# Altium schematic symbol library MOSFET.SchLib: 33 symbols
Pins are listed as number, name and electrical type; pins without a type are passive.

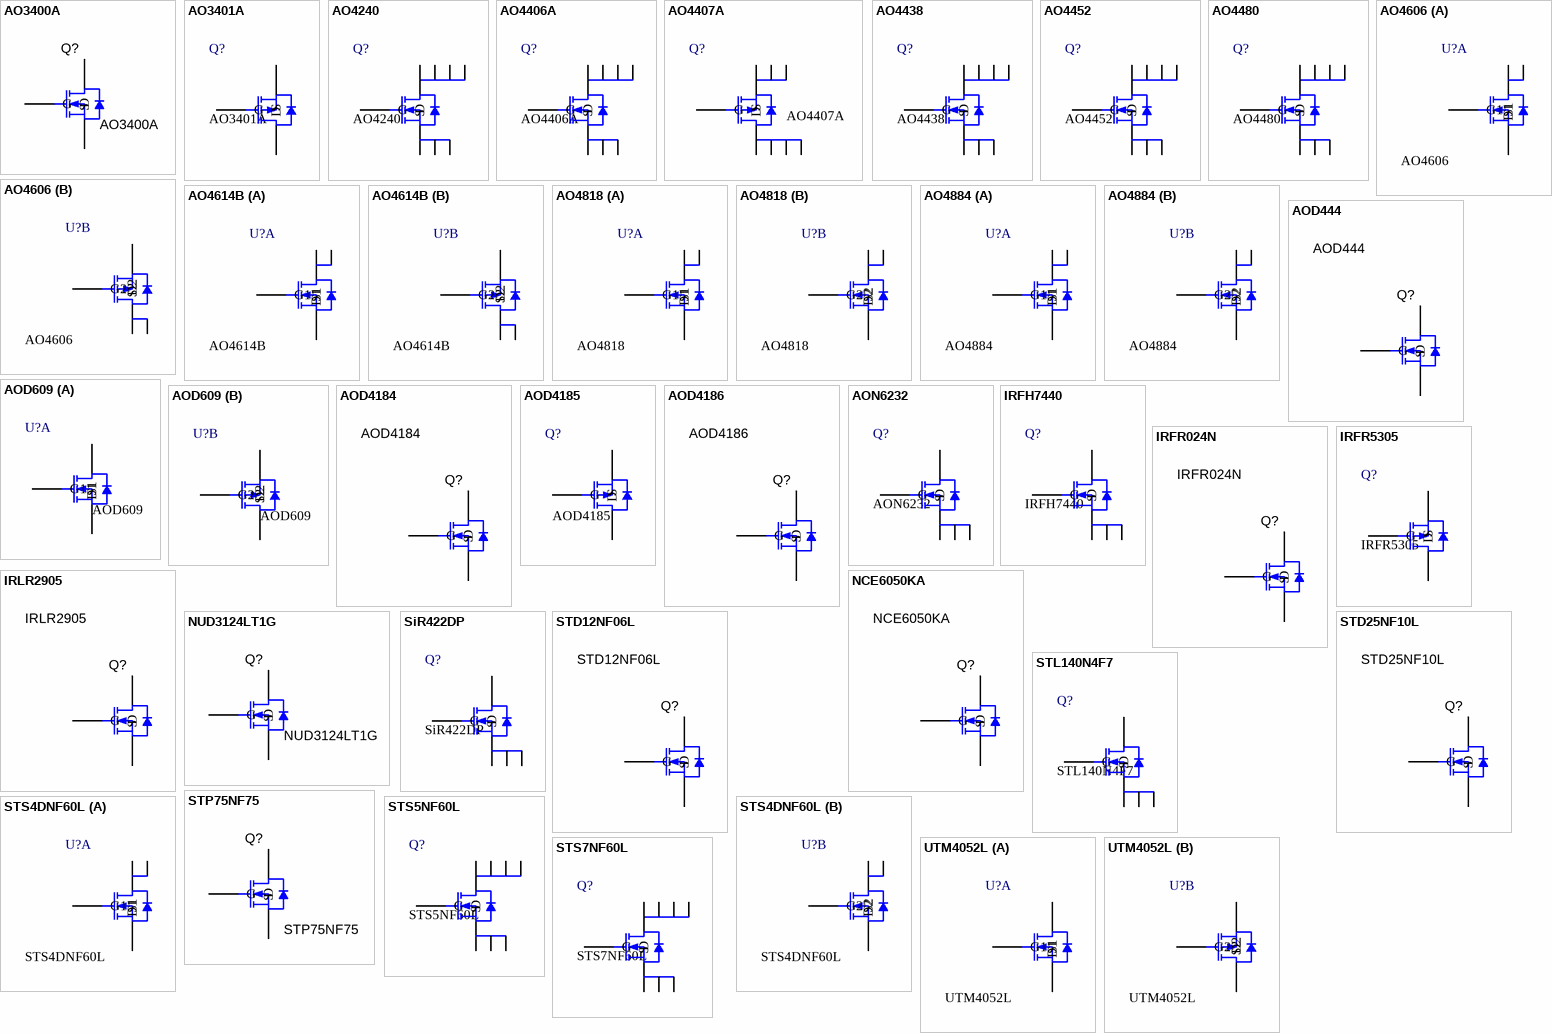
[diagram p0: symbols AO3400A to UTM4052L]

## AO3400A
designator Q?  Global part number: AO3400A
N MOSFET; Manufacturer: Alpha & Omega Semiconductor; Max voltage: 30V; Max current: 5.7A; Channel: N; Mount type: SMT; Size: SOT23
footprint SOT23-3
pins: 1 G, 2 D, 3 S
1 alternate drawing of the same symbol

## AO3401A
designator Q?  Global part number: AO3401A
P MOSFET; Manufacture: Alpha & Omega Semiconductor; Max voltage: -30V; Max current: -4A; Size: SOT23; Mount type: SMT; Channel: P
footprint SOT23-3
pins: 1 G, 2 D, 3 S

## AO4240
designator Q?  Global part number: AO4240
N MOSFET; Manufacture: Alpha & Omega Semiconductor; Max voltage(ds): 40V; Max current: 24A; Size: SOIC-8; Mount type: SMT; Channel: N
footprint SOIC-8
pins: 1 S, 2 S, 3 S, 4 G, 5 D, 6 D, 7 D, 8 D

## AO4406A
designator Q?  Global part number: AO4406A
N MOSFET; Manufacture: Alpha & Omega Semiconductor; Max voltage(ds): 30V; Max current: 13A; Size: SOIC-8; Mount type: SMT; Channel: N
footprint SOIC-8
pins: 1 S, 2 S, 3 S, 4 G, 5 D, 6 D, 7 D, 8 D

## AO4407A
designator Q?  Global part number: AO4407A
P MOSFET; Manufacture: Alpha & Omega Semiconductor; Max voltage(ds): -30V; Max current: -13A; Channel: N; Size: SOIC-8; Mount type: SMT
footprint SOIC-8
pins: 1 S, 2 S, 3 S, 3 G, 5 D, 6 D, 7 D, 8 D

## AO4438
designator Q?  Global part number: AO4438
N MOSFET; Manufacture: Alpha & Omega Semiconductor; Max voltage(ds): 60V; Max current: 8.2A; Size: SOIC-8; Mount type: SMT; Channel: N
footprint SOIC-8
pins: 1 S, 2 S, 3 S, 4 G, 5 D, 6 D, 7 D, 8 D

## AO4452
designator Q?  Global part number: AO4452
N MOSFET; Manufacture: Alpha & Omega Semiconductor; Max voltage(ds): 100V; Max current: 8A; Size: SOIC-8; Mount type: SMT; Channel: N
footprint SOIC-8
pins: 1 S, 2 S, 3 S, 4 G, 5 D, 6 D, 7 D, 8 D

## AO4480
designator Q?  Global part number: AO4480
N MOSFET; Manufacture: Alpha & Omega Semiconductor; Max voltage(ds): 40V; Max current: 14A; Size: SOIC-8; Mount type: SMT; Series: MOSFET; Channel: N
footprint SOIC-8
pins: 1 S, 2 S, 3 S, 4 G, 5 D, 6 D, 7 D, 8 D

## AO4606
designator U?  Global part number: AO4606
N+P MOSFET; Manufacture: Alpha & Omega Semiconductor; Max voltage P: -30V; Max voltage N: 30V; Max current N: 6A; Max current P: -6.5A; Size: SOIC-8; Mount type: SMT; Channel: N+P
footprint SOIC-8
part A pins: 1 S1, 2 G1, 7 D1, 8 D1
part B pins: 3 S2, 4 G2, 5 D2, 6 D2

## AO4614B
designator U?  Global part number: AO4614B
N+P MOSFET; Manufacture: Alpha & Omega Semiconductor; Max voltage P: -40V; Max voltage N: 40V; Max current N: 6A; Max current P: -5A; Size: SOIC-8; Mount type: SMT; Channel: N+P
footprint SOIC-8
part A pins: 1 S1, 2 G1, 7 D1, 8 D1
part B pins: 3 S2, 4 G2, 5 D2, 6 D2

## AO4818
designator U?  Global part number: AO4818
N+N MOSFET; Manufacture: Alpha & Omega Semiconductor; Max voltage N: 30V; Max current N: 8A; Size: SOIC-8; Mount type: SMT; Channel: N+N
footprint SOIC-8
part A pins: 1 S1, 2 G1, 7 D1, 8 D1
part B pins: 3 S2, 4 G2, 5 D2, 6 D2

## AO4884
designator U?  Global part number: AO4884
N+N MOSFET; Manufacture: Alpha & Omega Semiconductor; Max voltage N: 40V; Max current N: 10A; Size: SOIC-8; Mount type: SMT; Channel: N+N
footprint SOIC-8
part A pins: 1 S1, 2 G1, 7 D1, 8 D1
part B pins: 3 S2, 4 G2, 5 D2, 6 D2

## AOD444
designator Q?  Global part number: AOD444
N MOSFET; Manufacturer: Alpha & Omega Semiconductor; Max voltage(ds): 60V; Max current: 12A; Channel: N; Mount type: SMT; Size: DPAK
footprint DPAK(TO252-2)
pins: 1 G, 2 D, 3 S
1 alternate drawing of the same symbol

## AOD609
designator U?  Global part number: AOD609
N+P MOSFET; Manufacture: Alpha & Omega Semiconductor; Max voltage P: -40V; Max voltage N: 40V; Max current N: 12A; Max current P: -12A; Size: DAPK(TO252-4); Mount type: SMT; Channel: N+P
footprint DPAK(TO252-4)
part A pins: 1 S1, 2 G1, 3 D1
part B pins: 3 D2, 4 S2, 5 G2

## AOD4184
designator Q?  Global part number: AOD4184
N MOSFET; Manufacturer: Alpha & Omega Semiconductor; Max voltage(ds): 40V; Max current: 35A; Channel: N; Mount type: SMT; Size: DPAK
footprint DPAK-2
pins: 1 G, 2 D, 3 S
1 alternate drawing of the same symbol

## AOD4185
designator Q?  Global part number: AOD4185
P MOSFET; Manufacture: Alpha & Omega Semiconductor; Max voltage(ds): -40V; Max current: -40A; Size: DPAK; Mount type: SMT; Channel: P
footprint DPAK(TO252-2)
pins: 1 G, 2 D, 3 S

## AOD4186
designator Q?  Global part number: AOD4186
N MOSFET; Manufacturer: Alpha & Omega Semiconductor; Max voltage(ds): 40V; Max current: 35A; Channel: N; Mount type: SMT; Size: DPAK
footprint DPAK(TO252-2)
pins: 1 G, 2 D, 3 S
1 alternate drawing of the same symbol

## AON6232
designator Q?  Global part number: AON6232
N MOSFET; Manufacture: Alpha & Omega Semiconductor; Max voltage(ds): 40V; Max current: 85A; Size: DFN5*6; Mount type: SMT; Channel: N
footprint PowerPAK SO-8
pins: 1 S, 2 S, 3 S, 4 G, 5 D

## IRFH7440
designator Q?  Global part number: IRFH7440
N MOSFET; Manufacture: International Rectifier; Max voltage(ds): 40V; Max current: 85A; Size: DFN5*6; Mount type: SMT; Channel: N
footprint PowerPAK SO-8
pins: 1 S, 2 S, 3 S, 4 G, 5 D

## IRFR024N
designator Q?  Global part number: IRFR024N
N MOSFET; Manufacturer: International Rectifier; Max voltage(ds): 55V; Max current: 17A; Channel: N; Mount type: SMT; Size: DPAK
footprint DPAK(TO252-2)
pins: 1 G, 2 D, 3 S
1 alternate drawing of the same symbol

## IRFR5305
designator Q?  Global part number: IRFR5305
P MOSFET; Manufacture: International Rectifier; Max voltage(ds): -55V; Max current: -31A; Size: DPAK; Mount type: SMT; Channel: P
footprint DPAK(TO252-2)
pins: 1 G, 2 D, 3 S

## IRLR2905
designator Q?  Global part number: IRLR2905
N MOSFET; Manufacturer: International Rectifier; Max voltage(ds): 55V; Max current: 42A; Channel: N; Mount type: SMT; Size: DPAK
footprint DPAK(TO252-2)
pins: 1 G, 2 D, 3 S
1 alternate drawing of the same symbol

## NCE6050KA
designator Q?  Global part number: NCE6050KA
N MOSFET; Manufacturer: NCEPOWER; Max voltage(ds): 60V; Max current: 50A; Channel: N; Mount type: SMT; Size: DPAK
footprint DPAK(TO252-2)
pins: 1 G, 2 D, 3 S
1 alternate drawing of the same symbol

## NUD3124LT1G
designator Q?  Global part number: NUD3124LT1G
N MOSFET; Manufacturer: ON Semiconductor; Max voltage: 28V; Max current: 0.15A; Channel: N; Mount type: SMT; Size: SOT23-3
footprint SOT23-3
pins: 1 G, 2 D, 3 S
1 alternate drawing of the same symbol

## SiR422DP
designator Q?  Global part number: SiR422DP
N MOSFET; Manufacture: Vishay; Max voltage(ds): 40V; Max current: 40A; Size: DFN5*6; Mount type: SMT; Channel: N
footprint PowerPAK SO-8
pins: 1 S, 2 S, 3 S, 4 G, 5 D

## STD12NF06L
designator Q?  Global part number: STD12NF06L
N MOSFET; Manufacturer: STMicroelectronics; Max voltage(ds): 60V; Max current: 12A; Channel: N; Mount type: SMT; Size: DPAK
footprint DPAK(TO252-2)
pins: 1 G, 2 D, 3 S
1 alternate drawing of the same symbol

## STD25NF10L
designator Q?  Global part number: STD25NF10L
N MOSFET; Manufacturer: STMicroelectronics; Max voltage(ds): 100V; Max current: 25A; Channel: N; Mount type: SMT; Size: DPAK
footprint DPAK(TO252-2)
pins: 1 G, 2 D, 3 S
1 alternate drawing of the same symbol

## STL140N4F7
designator Q?  Global part number: STL140N4F7
N MOSFET; Manufacture: STMicroelectronics; Max voltage(ds): 40V; Max current: 140A; Size: DFN5*6; Mount type: SMT; Channel: N
footprint PowerPAK SO-8
pins: 1 S, 2 S, 3 S, 4 G, 5 D

## STP75NF75
designator Q?  Global part number: STP75NF75
N MOSFET; Manufacturer: STMicroelectronics; Max voltage(ds): 75V; Max current: 80A; Channel: N; Mount type: AI; Size: DPAK
footprint TO-220-3
pins: 1 G, 2 D, 3 S
1 alternate drawing of the same symbol

## STS4DNF60L
designator U?  Global part number: STS4DNF60L
N+N MOSFET; Manufacture: STMicroelectronics; Max voltage N: 60V; Max current N: 4A; Size: SOIC-8; Mount type: SMT; Channel: N+N
footprint SOIC-8
part A pins: 1 S1, 2 G1, 7 D1, 8 D1
part B pins: 3 S2, 4 G2, 5 D2, 6 D2

## STS5NF60L
designator Q?  Global part number: STS5NF60L
N MOSFET; Manufacture: STMicroelectronics; Max voltage(ds): 60V; Max current: 5A; Size: SOIC-8; Mount type: SMT; Channel: N
footprint SOIC-8
pins: 1 S, 2 S, 3 S, 4 G, 5 D, 6 D, 7 D, 8 D

## STS7NF60L
designator Q?  Global part number: STS7NF60L
N MOSFET; Manufacture: STMicroelectronics; Max voltage(ds): 60V; Max current: 7A; Size: SOIC-8; Mount type: SMT; Channel: N
footprint SOIC-8
pins: 1 S, 2 S, 3 S, 4 G, 5 D, 6 D, 7 D, 8 D

## UTM4052L
designator U?  Global part number: UTM4052L
N+P MOSFET; Manufacture: UTC; Max voltage P: -40V; Max voltage N: 40V; Max current N: 7.5A; Max current P: -6A; Size: DAPK(TO252-4); Mount type: SMT; Channel: N+P
footprint DPAK(TO252-4)
part A pins: 1 S1, 2 G1, 3 D1
part B pins: 3 D2, 4 S2, 5 G2